# Altium footprint library fpag-proj-lib.PcbLib: 3 footprints
Each footprint in its own frame and in the unit in brackets; x right, y up, seen from the top. Pads: shape width x height; smd on the part's side, far side on the other; paste and mask are expansions set on the pad; w line width, h text height; cw(c..) or ccw(c..) is an arc to the next point about the centre after c.
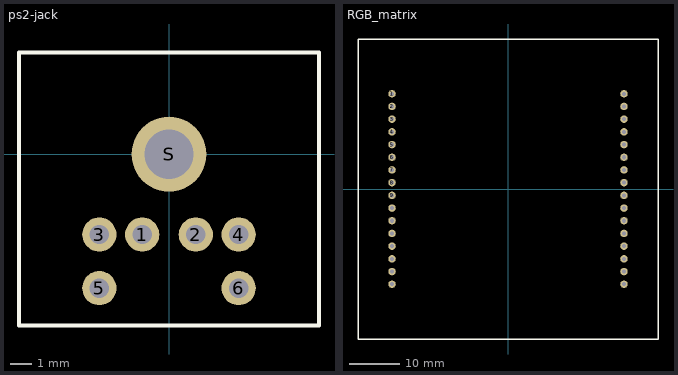
[diagram p0: the footprints below, top view; thin cyan lines are the x and y axes]

## PCBComponent_1 [mm]

## ps2-jack [mm]
pads (7):
  round 1.6 hole 0.9: 1(-1.25,-3.75) 2(1.25,-3.75) 3(-3.25,-3.75) 4(3.25,-3.75) 5(-3.25,-6.25) 6(3.25,-6.25)
  round 3.5 hole 2.3: S(0,0)
Top Overlay:
  lines w0.2: -7,-8 7,-8 7,4.75 -7,4.75 -7,-8

## RGB_matrix [mm]
pads (32):
  round 1.5 hole 0.8: 1(-23.2,19.05) 2(-23.2,16.51) 3(-23.2,13.97) 4(-23.2,11.43) 5(-23.2,8.89) 6(-23.2,6.35) 7(-23.2,3.81) 8(-23.2,1.27) 9(-23.2,-1.27) 10(-23.2,-3.81) 11(-23.2,-6.35) 12(-23.2,-8.89) 13(-23.2,-11.43) 14(-23.2,-13.97) 15(-23.2,-16.51) 16(-23.2,-19.05) 17(23.2,-19.05) 18(23.2,-16.51) 19(23.2,-13.97) 20(23.2,-11.43) 21(23.2,-8.89) 22(23.2,-6.35) 23(23.2,-3.81) 24(23.2,-1.27) 25(23.2,1.27) 26(23.2,3.81) 27(23.2,6.35) 28(23.2,8.89) 29(23.2,11.43) 30(23.2,13.97) 31(23.2,16.51) 32(23.2,19.05)
Top Overlay:
  lines w0.3: -30,-30 30,-30 30,30 -30,30 -30,-30